# Altium schematic symbol library WR-WTB_2.54mm.SchLib: 34 symbols
Pins are listed as number, name and electrical type; pins without a type are passive.

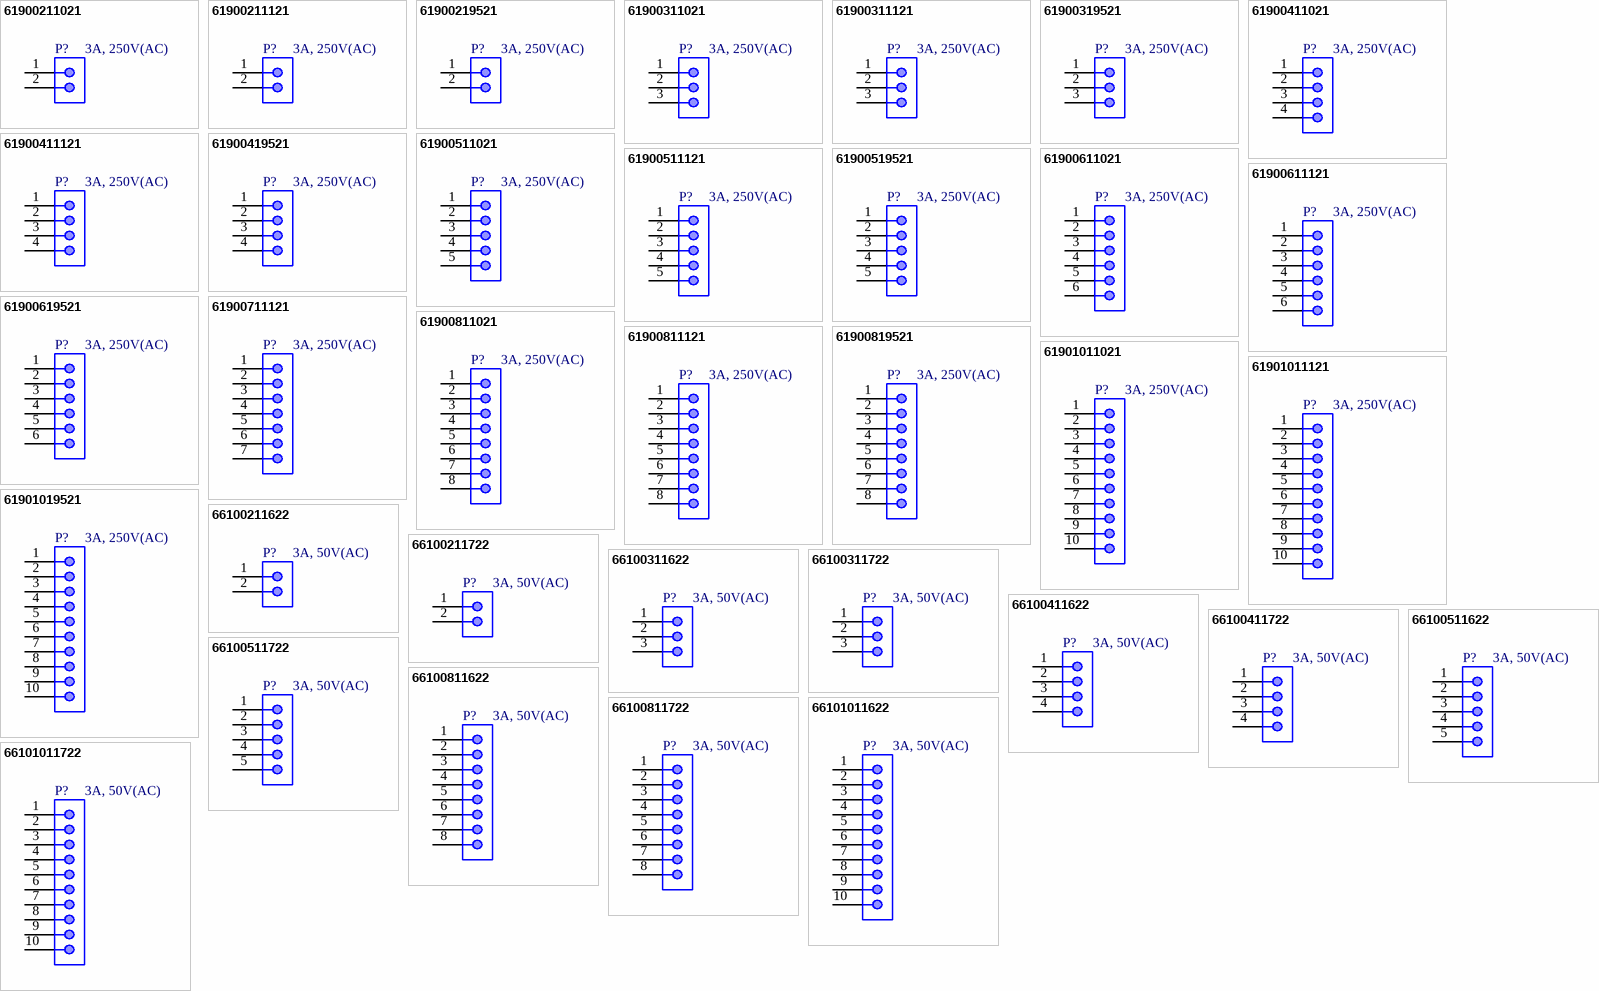
[diagram p0: symbols 61900211021 to 66101011722]

## 61900211021
designator P?, comment 3A, 250V(AC)
WR-WTB THT Male Left Angled Bottom Locking Header, pitch 2.54mm, 2p; Part Number: 61900211021; Manufacturer: Wurth Elektronik; Pin Number: 2; Contact Resistance: 20mOhm; Withstanding Voltage: 1000VAC; Working Voltage: 250VAC; ComponentLink1Description: Datasheet; ComponentLink1URL: https://www.we-online.com/catalog/datasheet/61900211021.pdf; Pitch: 2.54mm; Packaging: Bag; Gender: Male; Type: Right Angled Bottom Locking; Rated Current: 3A; Supplier 1 URL: N/A; Supplier 2 URL: N/A; Supplier 3 URL: N/A; Value: 3A, 250V(AC); LCSC Part #: N/A; Manufacturer Part Number: 61900211021; Mount: THT; Operating Temperature Max: + 125 C; Operating Temperature Min: - 40 C; Package / Case: 2; Supplier 1: Mouser; Supplier 1 Part Number: N/A; Supplier 2: Digi-Key; Supplier 2 Part Number: N/A; Supplier 3: thegioiic; Supplier 3 Part Number: N/A
footprint 61900211021
pins: 1, 2

## 61900211121
designator P?, comment 3A, 250V(AC)
WR-WTB THT Male Vertical Locking Header, pitch 2.54mm, 2p; Part Number: 61900211121; Manufacturer: Wurth Elektronik; Pin Number: 2; Contact Resistance: 20mOhm; Withstanding Voltage: 1000VAC; Working Voltage: 250VAC; ComponentLink1Description: Datasheet; ComponentLink1URL: https://www.we-online.com/catalog/datasheet/61900211121.pdf; Pitch: 2.54mm; Packaging: Bag; Gender: Male; Type: Vertical; Rated Current: 3A; Supplier 1 URL: N/A; Supplier 2 URL: N/A; Supplier 3 URL: N/A; Value: 3A, 250V(AC); LCSC Part #: N/A; Manufacturer Part Number: 61900211121; Mount: THT; Operating Temperature Max: + 125 C; Operating Temperature Min: - 40 C; Package / Case: 2; Supplier 1: Mouser; Supplier 1 Part Number: N/A; Supplier 2: Digi-Key; Supplier 2 Part Number: N/A; Supplier 3: thegioiic; Supplier 3 Part Number: N/A
footprint 61900211121
pins: 1, 2

## 61900219521
designator P?, comment 3A, 250V(AC)
WR-WTB THT Male Right Angled Top Locking Header, pitch 2.54mm, 2p; Part Number: 61900219521; Manufacturer: Wurth Elektronik; Pin Number: 2; Contact Resistance: 20mOhm; Withstanding Voltage: 1000VAC; Working Voltage: 250VAC; ComponentLink1Description: Datasheet; ComponentLink1URL: https://www.we-online.com/catalog/datasheet/61900219521.pdf; Pitch: 2.54mm; Packaging: Bag; Gender: Male; Type: Right Angled Top Locking; Rated Current: 3A; Supplier 1 URL: N/A; Supplier 2 URL: N/A; Supplier 3 URL: N/A; Value: 3A, 250V(AC); LCSC Part #: N/A; Manufacturer Part Number: 61900219521; Mount: THT; Operating Temperature Max: + 125 C; Operating Temperature Min: - 40 C; Package / Case: 2; Supplier 1: Mouser; Supplier 1 Part Number: N/A; Supplier 2: Digi-Key; Supplier 2 Part Number: N/A; Supplier 3: thegioiic; Supplier 3 Part Number: N/A
footprint 61900219521
pins: 1, 2

## 61900311021
designator P?, comment 3A, 250V(AC)
WR-WTB THT Male Left Angled Bottom Locking Header, pitch 2.54mm, 3p; Part Number: 61900311021; Manufacturer: Wurth Elektronik; Pin Number: 3; Contact Resistance: 20mOhm; Withstanding Voltage: 1000VAC; Working Voltage: 250VAC; ComponentLink1Description: Datasheet; ComponentLink1URL: https://www.we-online.com/catalog/datasheet/61900311021.pdf; Pitch: 2.54mm; Packaging: Bag; Gender: Male; Type: Right Angled Bottom Locking; Rated Current: 3A; Supplier 1 URL: N/A; Supplier 2 URL: N/A; Supplier 3 URL: N/A; Value: 3A, 250V(AC); LCSC Part #: N/A; Manufacturer Part Number: 61900311021; Mount: THT; Operating Temperature Max: + 125 C; Operating Temperature Min: - 40 C; Package / Case: 3; Supplier 1: Mouser; Supplier 1 Part Number: N/A; Supplier 2: Digi-Key; Supplier 2 Part Number: N/A; Supplier 3: thegioiic; Supplier 3 Part Number: N/A
footprint 61900311021
pins: 1, 2, 3

## 61900311121
designator P?, comment 3A, 250V(AC)
WR-WTB THT Male Vertical Locking Header, pitch 2.54mm, 3p; Part Number: 61900311121; Manufacturer: Wurth Elektronik; Pin Number: 3; Contact Resistance: 20mOhm; Withstanding Voltage: 1000VAC; Working Voltage: 250VAC; ComponentLink1Description: Datasheet; ComponentLink1URL: https://www.we-online.com/catalog/datasheet/61900311121.pdf; Pitch: 2.54mm; Packaging: Bag; Gender: Male; Type: Vertical; Rated Current: 3A; Supplier 1 URL: N/A; Supplier 2 URL: N/A; Supplier 3 URL: N/A; Value: 3A, 250V(AC); LCSC Part #: N/A; Manufacturer Part Number: 61900311121; Mount: THT; Operating Temperature Max: + 125 C; Operating Temperature Min: - 40 C; Package / Case: 3; Supplier 1: Mouser; Supplier 1 Part Number: N/A; Supplier 2: Digi-Key; Supplier 2 Part Number: N/A; Supplier 3: thegioiic; Supplier 3 Part Number: N/A
footprint 61900311121
pins: 1, 2, 3

## 61900319521
designator P?, comment 3A, 250V(AC)
WR-WTB THT Male Right Angled Top Locking Header, pitch 2.54mm, 3p; Part Number: 61900319521; Manufacturer: Wurth Elektronik; Pin Number: 3; Contact Resistance: 20mOhm; Withstanding Voltage: 1000VAC; Working Voltage: 250VAC; ComponentLink1Description: Datasheet; ComponentLink1URL: https://www.we-online.com/catalog/datasheet/61900319521.pdf; Pitch: 2.54mm; Packaging: Bag; Gender: Male; Type: Right Angled Top Locking; Rated Current: 3A; Supplier 1 URL: N/A; Supplier 2 URL: N/A; Supplier 3 URL: N/A; Value: 3A, 250V(AC); LCSC Part #: N/A; Manufacturer Part Number: 61900319521; Mount: THT; Operating Temperature Max: + 125 C; Operating Temperature Min: - 40 C; Package / Case: 3; Supplier 1: Mouser; Supplier 1 Part Number: N/A; Supplier 2: Digi-Key; Supplier 2 Part Number: N/A; Supplier 3: thegioiic; Supplier 3 Part Number: N/A
footprint 61900319521
pins: 1, 2, 3

## 61900411021
designator P?, comment 3A, 250V(AC)
WR-WTB THT Male Left Angled Bottom Locking Header, pitch 2.54mm, 4p; Part Number: 61900411021; Manufacturer: Wurth Elektronik; Pin Number: 4; Contact Resistance: 20mOhm; Withstanding Voltage: 1000VAC; Working Voltage: 250VAC; ComponentLink1Description: Datasheet; ComponentLink1URL: https://www.we-online.com/catalog/datasheet/61900411021.pdf; Pitch: 2.54mm; Packaging: Bag; Gender: Male; Type: Right Angled Bottom Locking; Rated Current: 3A; Supplier 1 URL: N/A; Supplier 2 URL: N/A; Supplier 3 URL: N/A; Value: 3A, 250V(AC); LCSC Part #: N/A; Manufacturer Part Number: 61900411021; Mount: THT; Operating Temperature Max: + 125 C; Operating Temperature Min: - 40 C; Package / Case: 4; Supplier 1: Mouser; Supplier 1 Part Number: N/A; Supplier 2: Digi-Key; Supplier 2 Part Number: N/A; Supplier 3: thegioiic; Supplier 3 Part Number: N/A
footprint 61900411021
pins: 1, 2, 3, 4

## 61900411121
designator P?, comment 3A, 250V(AC)
WR-WTB THT Male Vertical Locking Header, pitch 2.54mm, 4p; Part Number: 61900411121; Manufacturer: Wurth Elektronik; Pin Number: 4; Contact Resistance: 20mOhm; Withstanding Voltage: 1000VAC; Working Voltage: 250VAC; ComponentLink1Description: Datasheet; ComponentLink1URL: https://www.we-online.com/catalog/datasheet/61900411121.pdf; Pitch: 2.54mm; Packaging: Bag; Gender: Male; Type: Vertical; Rated Current: 3A; Supplier 1 URL: N/A; Supplier 2 URL: N/A; Supplier 3 URL: N/A; Value: 3A, 250V(AC); LCSC Part #: N/A; Manufacturer Part Number: 61900411121; Mount: THT; Operating Temperature Max: + 125 C; Operating Temperature Min: - 40 C; Package / Case: 4; Supplier 1: Mouser; Supplier 1 Part Number: N/A; Supplier 2: Digi-Key; Supplier 2 Part Number: N/A; Supplier 3: thegioiic; Supplier 3 Part Number: N/A
footprint 61900411121
pins: 1, 2, 3, 4

## 61900419521
designator P?, comment 3A, 250V(AC)
WR-WTB THT Male Right Angled Top Locking Header, pitch 2.54mm, 4p; Part Number: 61900419521; Manufacturer: Wurth Elektronik; Pin Number: 4; Contact Resistance: 20mOhm; Withstanding Voltage: 1000VAC; Working Voltage: 250VAC; ComponentLink1Description: Datasheet; ComponentLink1URL: https://www.we-online.com/catalog/datasheet/61900419521.pdf; Pitch: 2.54mm; Packaging: Bag; Gender: Male; Type: Right Angled Top Locking; Rated Current: 3A; Supplier 1 URL: N/A; Supplier 2 URL: N/A; Supplier 3 URL: N/A; Value: 3A, 250V(AC); LCSC Part #: N/A; Manufacturer Part Number: 61900419521; Mount: THT; Operating Temperature Max: + 125 C; Operating Temperature Min: - 40 C; Package / Case: 4; Supplier 1: Mouser; Supplier 1 Part Number: N/A; Supplier 2: Digi-Key; Supplier 2 Part Number: N/A; Supplier 3: thegioiic; Supplier 3 Part Number: N/A
footprint 61900419521
pins: 1, 2, 3, 4

## 61900511021
designator P?, comment 3A, 250V(AC)
WR-WTB THT Male Left Angled Bottom Locking Header, pitch 2.54mm, 5p; Part Number: 61900511021; Manufacturer: Wurth Elektronik; Pin Number: 5; Contact Resistance: 20mOhm; Withstanding Voltage: 1000VAC; Working Voltage: 250VAC; ComponentLink1Description: Datasheet; ComponentLink1URL: https://www.we-online.com/catalog/datasheet/61900511021.pdf; Pitch: 2.54mm; Packaging: Bag; Gender: Male; Type: Right Angled Bottom Locking; Rated Current: 3A; Supplier 1 URL: N/A; Supplier 2 URL: N/A; Supplier 3 URL: N/A; Value: 3A, 250V(AC); LCSC Part #: N/A; Manufacturer Part Number: 61900511021; Mount: THT; Operating Temperature Max: + 125 C; Operating Temperature Min: - 40 C; Package / Case: 5; Supplier 1: Mouser; Supplier 1 Part Number: N/A; Supplier 2: Digi-Key; Supplier 2 Part Number: N/A; Supplier 3: thegioiic; Supplier 3 Part Number: N/A
footprint 61900511021
pins: 1, 2, 3, 4, 5

## 61900511121
designator P?, comment 3A, 250V(AC)
WR-WTB THT Male Vertical Locking Header, pitch 2.54mm, 5p; Part Number: 61900511121; Manufacturer: Wurth Elektronik; Pin Number: 5; Contact Resistance: 20mOhm; Withstanding Voltage: 1000VAC; Working Voltage: 250VAC; ComponentLink1Description: Datasheet; ComponentLink1URL: https://www.we-online.com/catalog/datasheet/61900511121.pdf; Pitch: 2.54mm; Packaging: Bag; Gender: Male; Type: Vertical; Rated Current: 3A; Supplier 1 URL: N/A; Supplier 2 URL: N/A; Supplier 3 URL: N/A; Value: 3A, 250V(AC); LCSC Part #: N/A; Manufacturer Part Number: 61900511121; Mount: THT; Operating Temperature Max: + 125 C; Operating Temperature Min: - 40 C; Package / Case: 5; Supplier 1: Mouser; Supplier 1 Part Number: N/A; Supplier 2: Digi-Key; Supplier 2 Part Number: N/A; Supplier 3: thegioiic; Supplier 3 Part Number: N/A
footprint 61900511121
pins: 1, 2, 3, 4, 5

## 61900519521
designator P?, comment 3A, 250V(AC)
WR-WTB THT Male Right Angled Top Locking Header, pitch 2.54mm, 5p; Part Number: 61900519521; Manufacturer: Wurth Elektronik; Pin Number: 5; Contact Resistance: 20mOhm; Withstanding Voltage: 1000VAC; Working Voltage: 250VAC; ComponentLink1Description: Datasheet; ComponentLink1URL: https://www.we-online.com/catalog/datasheet/61900519521.pdf; Pitch: 2.54mm; Packaging: Bag; Gender: Male; Type: Right Angled Top Locking; Rated Current: 3A; Supplier 1 URL: N/A; Supplier 2 URL: N/A; Supplier 3 URL: N/A; Value: 3A, 250V(AC); LCSC Part #: N/A; Manufacturer Part Number: 61900519521; Mount: THT; Operating Temperature Max: + 125 C; Operating Temperature Min: - 40 C; Package / Case: 5; Supplier 1: Mouser; Supplier 1 Part Number: N/A; Supplier 2: Digi-Key; Supplier 2 Part Number: N/A; Supplier 3: thegioiic; Supplier 3 Part Number: N/A
footprint 61900519521
pins: 1, 2, 3, 4, 5

## 61900611021
designator P?, comment 3A, 250V(AC)
WR-WTB THT Male Left Angled Bottom Locking Header, pitch 2.54mm, 6p; Part Number: 61900611021; Manufacturer: Wurth Elektronik; Pin Number: 6; Contact Resistance: 20mOhm; Withstanding Voltage: 1000VAC; Working Voltage: 250VAC; ComponentLink1Description: Datasheet; ComponentLink1URL: https://www.we-online.com/catalog/datasheet/61900611021.pdf; Pitch: 2.54mm; Packaging: Bag; Gender: Male; Type: Right Angled Bottom Locking; Rated Current: 3A; Supplier 1 URL: N/A; Supplier 2 URL: N/A; Supplier 3 URL: N/A; Value: 3A, 250V(AC); LCSC Part #: N/A; Manufacturer Part Number: 61900611021; Mount: THT; Operating Temperature Max: + 125 C; Operating Temperature Min: - 40 C; Package / Case: 6; Supplier 1: Mouser; Supplier 1 Part Number: N/A; Supplier 2: Digi-Key; Supplier 2 Part Number: N/A; Supplier 3: thegioiic; Supplier 3 Part Number: N/A
footprint 61900611021
pins: 1, 2, 3, 4, 5, 6

## 61900611121
designator P?, comment 3A, 250V(AC)
WR-WTB THT Male Vertical Locking Header, pitch 2.54mm, 6p; Part Number: 61900611121; Manufacturer: Wurth Elektronik; Pin Number: 6; Contact Resistance: 20mOhm; Withstanding Voltage: 1000VAC; Working Voltage: 250VAC; ComponentLink1Description: Datasheet; ComponentLink1URL: https://www.we-online.com/catalog/datasheet/61900611121.pdf; Pitch: 2.54mm; Packaging: Bag; Gender: Male; Type: Vertical; Rated Current: 3A; Supplier 1 URL: N/A; Supplier 2 URL: N/A; Supplier 3 URL: N/A; Value: 3A, 250V(AC); LCSC Part #: N/A; Manufacturer Part Number: 61900611121; Mount: THT; Operating Temperature Max: + 125 C; Operating Temperature Min: - 40 C; Package / Case: 6; Supplier 1: Mouser; Supplier 1 Part Number: N/A; Supplier 2: Digi-Key; Supplier 2 Part Number: N/A; Supplier 3: thegioiic; Supplier 3 Part Number: N/A
footprint 61900611121
pins: 1, 2, 3, 4, 5, 6

## 61900619521
designator P?, comment 3A, 250V(AC)
WR-WTB THT Male Right Angled Top Locking Header, pitch 2.54mm, 6p; Part Number: 61900619521; Manufacturer: Wurth Elektronik; Pin Number: 6; Contact Resistance: 20mOhm; Withstanding Voltage: 1000VAC; Working Voltage: 250VAC; ComponentLink1Description: Datasheet; ComponentLink1URL: https://www.we-online.com/catalog/datasheet/61900619521.pdf; Pitch: 2.54mm; Packaging: Bag; Gender: Male; Type: Right Angled Top Locking; Rated Current: 3A; Supplier 1 URL: N/A; Supplier 2 URL: N/A; Supplier 3 URL: N/A; Value: 3A, 250V(AC); LCSC Part #: N/A; Manufacturer Part Number: 61900619521; Mount: THT; Operating Temperature Max: + 125 C; Operating Temperature Min: - 40 C; Package / Case: 6; Supplier 1: Mouser; Supplier 1 Part Number: N/A; Supplier 2: Digi-Key; Supplier 2 Part Number: N/A; Supplier 3: thegioiic; Supplier 3 Part Number: N/A
footprint 61900619521
pins: 1, 2, 3, 4, 5, 6

## 61900711121
designator P?, comment 3A, 250V(AC)
WR-WTB THT Male Vertical Locking Header, pitch 2.54mm, 7p; Part Number: 61900711121; Manufacturer: Wurth Elektronik; Pin Number: 7; Contact Resistance: 20mOhm; Withstanding Voltage: 1000VAC; Working Voltage: 250VAC; ComponentLink1Description: Datasheet; ComponentLink1URL: https://www.we-online.com/catalog/datasheet/61900711121.pdf; Pitch: 2.54mm; Packaging: Bag; Gender: Male; Type: Vertical; Rated Current: 3A; Supplier 1 URL: N/A; Supplier 2 URL: N/A; Supplier 3 URL: N/A; Value: 3A, 250V(AC); LCSC Part #: N/A; Manufacturer Part Number: 61900711121; Mount: THT; Operating Temperature Max: + 125 C; Operating Temperature Min: - 40 C; Package / Case: 7; Supplier 1: Mouser; Supplier 1 Part Number: N/A; Supplier 2: Digi-Key; Supplier 2 Part Number: N/A; Supplier 3: thegioiic; Supplier 3 Part Number: N/A
footprint 61900711121
pins: 1, 2, 3, 4, 5, 6, 7

## 61900811021
designator P?, comment 3A, 250V(AC)
WR-WTB THT Male Left Angled Bottom Locking Header, pitch 2.54mm, 8p; Part Number: 61900811021; Manufacturer: Wurth Elektronik; Pin Number: 8; Contact Resistance: 20mOhm; Withstanding Voltage: 1000VAC; Working Voltage: 250VAC; ComponentLink1Description: Datasheet; ComponentLink1URL: https://www.we-online.com/catalog/datasheet/61900811021.pdf; Pitch: 2.54mm; Packaging: Bag; Gender: Male; Type: Right Angled Bottom Locking; Rated Current: 3A; Supplier 1 URL: N/A; Supplier 2 URL: N/A; Supplier 3 URL: N/A; Value: 3A, 250V(AC); LCSC Part #: N/A; Manufacturer Part Number: 61900811021; Mount: THT; Operating Temperature Max: + 125 C; Operating Temperature Min: - 40 C; Package / Case: 8; Supplier 1: Mouser; Supplier 1 Part Number: N/A; Supplier 2: Digi-Key; Supplier 2 Part Number: N/A; Supplier 3: thegioiic; Supplier 3 Part Number: N/A
footprint 61900811021
pins: 1, 2, 3, 4, 5, 6, 7, 8

## 61900811121
designator P?, comment 3A, 250V(AC)
WR-WTB THT Male Vertical Locking Header, pitch 2.54mm, 8p; Part Number: 61900811121; Manufacturer: Wurth Elektronik; Pin Number: 8; Contact Resistance: 20mOhm; Withstanding Voltage: 1000VAC; Working Voltage: 250VAC; ComponentLink1Description: Datasheet; ComponentLink1URL: https://www.we-online.com/catalog/datasheet/61900811121.pdf; Pitch: 2.54mm; Packaging: Bag; Gender: Male; Type: Vertical; Rated Current: 3A; Supplier 1 URL: N/A; Supplier 2 URL: N/A; Supplier 3 URL: N/A; Value: 3A, 250V(AC); LCSC Part #: N/A; Manufacturer Part Number: 61900811121; Mount: THT; Operating Temperature Max: + 125 C; Operating Temperature Min: - 40 C; Package / Case: 8; Supplier 1: Mouser; Supplier 1 Part Number: N/A; Supplier 2: Digi-Key; Supplier 2 Part Number: N/A; Supplier 3: thegioiic; Supplier 3 Part Number: N/A
footprint 61900811121
pins: 1, 2, 3, 4, 5, 6, 7, 8

## 61900819521
designator P?, comment 3A, 250V(AC)
WR-WTB THT Male Right Angled Top Locking Header, pitch 2.54mm, 8p; Part Number: 61900819521; Manufacturer: Wurth Elektronik; Pin Number: 8; Contact Resistance: 20mOhm; Withstanding Voltage: 1000VAC; Working Voltage: 250VAC; ComponentLink1Description: Datasheet; ComponentLink1URL: https://www.we-online.com/catalog/datasheet/61900819521.pdf; Pitch: 2.54mm; Packaging: Bag; Gender: Male; Type: Right Angled Top Locking; Rated Current: 3A; Supplier 1 URL: N/A; Supplier 2 URL: N/A; Supplier 3 URL: N/A; Value: 3A, 250V(AC); LCSC Part #: N/A; Manufacturer Part Number: 61900819521; Mount: THT; Operating Temperature Max: + 125 C; Operating Temperature Min: - 40 C; Package / Case: 8; Supplier 1: Mouser; Supplier 1 Part Number: N/A; Supplier 2: Digi-Key; Supplier 2 Part Number: N/A; Supplier 3: thegioiic; Supplier 3 Part Number: N/A
footprint 61900819521
pins: 1, 2, 3, 4, 5, 6, 7, 8

## 61901011021
designator P?, comment 3A, 250V(AC)
WR-WTB THT Male Left Angled Bottom Locking Header, pitch 2.54mm, 10p; Part Number: 61901011021; Manufacturer: Wurth Elektronik; Pin Number: 10; Contact Resistance: 20mOhm; Withstanding Voltage: 1000VAC; Working Voltage: 250VAC; ComponentLink1Description: Datasheet; ComponentLink1URL: https://www.we-online.com/catalog/datasheet/61901011021.pdf; Pitch: 2.54mm; Packaging: Bag; Gender: Male; Type: Right Angled Bottom Locking; Rated Current: 3A; Supplier 1 URL: N/A; Supplier 2 URL: N/A; Supplier 3 URL: N/A; Value: 3A, 250V(AC); LCSC Part #: N/A; Manufacturer Part Number: 61901011021; Mount: THT; Operating Temperature Max: + 125 C; Operating Temperature Min: - 40 C; Package / Case: 10; Supplier 1: Mouser; Supplier 1 Part Number: N/A; Supplier 2: Digi-Key; Supplier 2 Part Number: N/A; Supplier 3: thegioiic; Supplier 3 Part Number: N/A
footprint 61901011021
pins: 1, 2, 3, 4, 5, 6, 7, 8, 9, 10

## 61901011121
designator P?, comment 3A, 250V(AC)
WR-WTB THT Male Vertical Locking Header, pitch 2.54mm, 10p; Part Number: 61901011121; Manufacturer: Wurth Elektronik; Pin Number: 10; Contact Resistance: 20mOhm; Withstanding Voltage: 1000VAC; Working Voltage: 250VAC; ComponentLink1Description: Datasheet; ComponentLink1URL: https://www.we-online.com/catalog/datasheet/61901011121.pdf; Pitch: 2.54mm; Packaging: Bag; Gender: Male; Type: Vertical; Rated Current: 3A; Supplier 1 URL: N/A; Supplier 2 URL: N/A; Supplier 3 URL: N/A; Value: 3A, 250V(AC); LCSC Part #: N/A; Manufacturer Part Number: 61901011121; Mount: THT; Operating Temperature Max: + 125 C; Operating Temperature Min: - 40 C; Package / Case: 10; Supplier 1: Mouser; Supplier 1 Part Number: N/A; Supplier 2: Digi-Key; Supplier 2 Part Number: N/A; Supplier 3: thegioiic; Supplier 3 Part Number: N/A
footprint 61901011121
pins: 1, 2, 3, 4, 5, 6, 7, 8, 9, 10

## 61901019521
designator P?, comment 3A, 250V(AC)
WR-WTB THT Male Right Angled Top Locking Header, pitch 2.54mm, 10p; Part Number: 61901019521; Manufacturer: Wurth Elektronik; Pin Number: 10; Contact Resistance: 20mOhm; Withstanding Voltage: 1000VAC; Working Voltage: 250VAC; ComponentLink1Description: Datasheet; ComponentLink1URL: https://www.we-online.com/catalog/datasheet/61901019521.pdf; Pitch: 2.54mm; Packaging: Bag; Gender: Male; Type: Right Angled Top Locking; Rated Current: 3A; Supplier 1 URL: N/A; Supplier 2 URL: N/A; Supplier 3 URL: N/A; Value: 3A, 250V(AC); LCSC Part #: N/A; Manufacturer Part Number: 61901019521; Mount: THT; Operating Temperature Max: + 125 C; Operating Temperature Min: - 40 C; Package / Case: 10; Supplier 1: Mouser; Supplier 1 Part Number: N/A; Supplier 2: Digi-Key; Supplier 2 Part Number: N/A; Supplier 3: thegioiic; Supplier 3 Part Number: N/A
footprint 61901019521
pins: 1, 2, 3, 4, 5, 6, 7, 8, 9, 10

## 66100211622
designator P?, comment 3A, 50V(AC)
WR-WTB Male Vertical Shrouded Header, pitch 2.54mm, 2p; Part Number: 66100211622; Manufacturer: Wurth Elektronik; Pin Number: 2; Contact Resistance: 20mOhm; Withstanding Voltage: 500VAC; Working Voltage: 50VAC; ComponentLink1Description: Datasheet; ComponentLink1URL: https://www.we-online.com/catalog/datasheet/66100211622.pdf; Pitch: 2.54mm; Packaging: Box; Gender: Male; Type: Vertical; Rated Current: 3A; Supplier 1 URL: N/A; Supplier 2 URL: N/A; Supplier 3 URL: N/A; Value: 3A, 50V(AC); LCSC Part #: N/A; Manufacturer Part Number: 66100211622; Mount: THT; Operating Temperature Max: + 125 C; Operating Temperature Min: - 40 C; Package / Case: 2; Supplier 1: Mouser; Supplier 1 Part Number: N/A; Supplier 2: Digi-Key; Supplier 2 Part Number: N/A; Supplier 3: thegioiic; Supplier 3 Part Number: N/A
footprint 66100211622
pins: 1, 2

## 66100211722
designator P?, comment 3A, 50V(AC)
WR-WTB THT Male Right Angled Shrouded Header, pitch 2.54mm, 2p; Part Number: 66100211722; Manufacturer: Wurth Elektronik; Pin Number: 2; Contact Resistance: 20mOhm; Withstanding Voltage: 500VAC; Working Voltage: 50VAC; ComponentLink1Description: Datasheet; ComponentLink1URL: https://www.we-online.com/catalog/datasheet/66100211722.pdf; Pitch: 2.54mm; Packaging: Box; Gender: Male; Type: Right Angled; Rated Current: 3A; Supplier 1 URL: N/A; Supplier 2 URL: N/A; Supplier 3 URL: N/A; Value: 3A, 50V(AC); LCSC Part #: N/A; Manufacturer Part Number: 66100211722; Mount: THT; Operating Temperature Max: + 125 C; Operating Temperature Min: - 40 C; Package / Case: 2; Supplier 1: Mouser; Supplier 1 Part Number: N/A; Supplier 2: Digi-Key; Supplier 2 Part Number: N/A; Supplier 3: thegioiic; Supplier 3 Part Number: N/A
footprint 66100211722
pins: 1, 2

## 66100311622
designator P?, comment 3A, 50V(AC)
WR-WTB Male Vertical Shrouded Header, pitch 2.54mm, 3p; Part Number: 66100311622; Manufacturer: Wurth Elektronik; Pin Number: 3; Contact Resistance: 20mOhm; Withstanding Voltage: 500VAC; Working Voltage: 50VAC; ComponentLink1Description: Datasheet; ComponentLink1URL: https://www.we-online.com/catalog/datasheet/66100311622.pdf; Pitch: 2.54mm; Packaging: Box; Gender: Male; Type: Vertical; Rated Current: 3A; Supplier 1 URL: N/A; Supplier 2 URL: N/A; Supplier 3 URL: N/A; Value: 3A, 50V(AC); LCSC Part #: N/A; Manufacturer Part Number: 66100311622; Mount: THT; Operating Temperature Max: + 125 C; Operating Temperature Min: - 40 C; Package / Case: 3; Supplier 1: Mouser; Supplier 1 Part Number: N/A; Supplier 2: Digi-Key; Supplier 2 Part Number: N/A; Supplier 3: thegioiic; Supplier 3 Part Number: N/A
footprint 66100311622
pins: 1, 2, 3

## 66100311722
designator P?, comment 3A, 50V(AC)
WR-WTB THT Male Right Angled Shrouded Header, pitch 2.54mm, 3p; Part Number: 66100311722; Manufacturer: Wurth Elektronik; Pin Number: 3; Contact Resistance: 20mOhm; Withstanding Voltage: 500VAC; Working Voltage: 50VAC; ComponentLink1Description: Datasheet; ComponentLink1URL: https://www.we-online.com/catalog/datasheet/66100311722.pdf; Pitch: 2.54mm; Packaging: Box; Gender: Male; Type: Right Angled; Rated Current: 3A; Supplier 1 URL: N/A; Supplier 2 URL: N/A; Supplier 3 URL: N/A; Value: 3A, 50V(AC); LCSC Part #: N/A; Manufacturer Part Number: 66100311722; Mount: THT; Operating Temperature Max: + 125 C; Operating Temperature Min: - 40 C; Package / Case: 3; Supplier 1: Mouser; Supplier 1 Part Number: N/A; Supplier 2: Digi-Key; Supplier 2 Part Number: N/A; Supplier 3: thegioiic; Supplier 3 Part Number: N/A
footprint 66100311722
pins: 1, 2, 3

## 66100411622
designator P?, comment 3A, 50V(AC)
WR-WTB Male Vertical Shrouded Header, pitch 2.54mm, 4p; Part Number: 66100411622; Manufacturer: Wurth Elektronik; Pin Number: 4; Contact Resistance: 20mOhm; Withstanding Voltage: 500VAC; Working Voltage: 50VAC; ComponentLink1Description: Datasheet; ComponentLink1URL: https://www.we-online.com/catalog/datasheet/66100411622.pdf; Pitch: 2.54mm; Packaging: Box; Gender: Male; Type: Vertical; Rated Current: 3A; Supplier 1 URL: N/A; Supplier 2 URL: N/A; Supplier 3 URL: N/A; Value: 3A, 50V(AC); LCSC Part #: N/A; Manufacturer Part Number: 66100411622; Mount: THT; Operating Temperature Max: + 125 C; Operating Temperature Min: - 40 C; Package / Case: 4; Supplier 1: Mouser; Supplier 1 Part Number: N/A; Supplier 2: Digi-Key; Supplier 2 Part Number: N/A; Supplier 3: thegioiic; Supplier 3 Part Number: N/A
footprint 66100411622
pins: 1, 2, 3, 4

## 66100411722
designator P?, comment 3A, 50V(AC)
WR-WTB THT Male Right Angled Shrouded Header, pitch 2.54mm, 4p; Part Number: 66100411722; Manufacturer: Wurth Elektronik; Pin Number: 4; Contact Resistance: 20mOhm; Withstanding Voltage: 500VAC; Working Voltage: 50VAC; ComponentLink1Description: Datasheet; ComponentLink1URL: https://www.we-online.com/catalog/datasheet/66100411722.pdf; Pitch: 2.54mm; Packaging: Box; Gender: Male; Type: Right Angled; Rated Current: 3A; Supplier 1 URL: N/A; Supplier 2 URL: N/A; Supplier 3 URL: N/A; Value: 3A, 50V(AC); LCSC Part #: N/A; Manufacturer Part Number: 66100411722; Mount: THT; Operating Temperature Max: + 125 C; Operating Temperature Min: - 40 C; Package / Case: 4; Supplier 1: Mouser; Supplier 1 Part Number: N/A; Supplier 2: Digi-Key; Supplier 2 Part Number: N/A; Supplier 3: thegioiic; Supplier 3 Part Number: N/A
footprint 66100411722
pins: 1, 2, 3, 4

## 66100511622
designator P?, comment 3A, 50V(AC)
WR-WTB Male Vertical Shrouded Header, pitch 2.54mm, 5p; Part Number: 66100511622; Manufacturer: Wurth Elektronik; Pin Number: 5; Contact Resistance: 20mOhm; Withstanding Voltage: 500VAC; Working Voltage: 50VAC; ComponentLink1Description: Datasheet; ComponentLink1URL: https://www.we-online.com/catalog/datasheet/66100511622.pdf; Pitch: 2.54mm; Packaging: Box; Gender: Male; Type: Vertical; Rated Current: 3A; Supplier 1 URL: N/A; Supplier 2 URL: N/A; Supplier 3 URL: N/A; Value: 3A, 50V(AC); LCSC Part #: N/A; Manufacturer Part Number: 66100511622; Mount: THT; Operating Temperature Max: + 125 C; Operating Temperature Min: - 40 C; Package / Case: 5; Supplier 1: Mouser; Supplier 1 Part Number: N/A; Supplier 2: Digi-Key; Supplier 2 Part Number: N/A; Supplier 3: thegioiic; Supplier 3 Part Number: N/A
footprint 66100511622
pins: 1, 2, 3, 4, 5

## 66100511722
designator P?, comment 3A, 50V(AC)
WR-WTB THT Male Right Angled Shrouded Header, pitch 2.54mm, 5p; Part Number: 66100511722; Manufacturer: Wurth Elektronik; Pin Number: 5; Contact Resistance: 20mOhm; Withstanding Voltage: 500VAC; Working Voltage: 50VAC; ComponentLink1Description: Datasheet; ComponentLink1URL: https://www.we-online.com/catalog/datasheet/66100511722.pdf; Pitch: 2.54mm; Packaging: Box; Gender: Male; Type: Right Angled; Rated Current: 3A; Supplier 1 URL: N/A; Supplier 2 URL: N/A; Supplier 3 URL: N/A; Value: 3A, 50V(AC); LCSC Part #: N/A; Manufacturer Part Number: 66100511722; Mount: THT; Operating Temperature Max: + 125 C; Operating Temperature Min: - 40 C; Package / Case: 5; Supplier 1: Mouser; Supplier 1 Part Number: N/A; Supplier 2: Digi-Key; Supplier 2 Part Number: N/A; Supplier 3: thegioiic; Supplier 3 Part Number: N/A
footprint 66100511722
pins: 1, 2, 3, 4, 5

## 66100811622
designator P?, comment 3A, 50V(AC)
WR-WTB Male Vertical Shrouded Header, pitch 2.54mm, 8p; Part Number: 66100811622; Manufacturer: Wurth Elektronik; Pin Number: 8; Contact Resistance: 20mOhm; Withstanding Voltage: 500VAC; Working Voltage: 50VAC; ComponentLink1Description: Datasheet; ComponentLink1URL: https://www.we-online.com/catalog/datasheet/66100811622.pdf; Pitch: 2.54mm; Packaging: Box; Gender: Male; Type: Vertical; Rated Current: 3A; Supplier 1 URL: N/A; Supplier 2 URL: N/A; Supplier 3 URL: N/A; Value: 3A, 50V(AC); LCSC Part #: N/A; Manufacturer Part Number: 66100811622; Mount: THT; Operating Temperature Max: + 125 C; Operating Temperature Min: - 40 C; Package / Case: 8; Supplier 1: Mouser; Supplier 1 Part Number: N/A; Supplier 2: Digi-Key; Supplier 2 Part Number: N/A; Supplier 3: thegioiic; Supplier 3 Part Number: N/A
footprint 66100811622
pins: 1, 2, 3, 4, 5, 6, 7, 8

## 66100811722
designator P?, comment 3A, 50V(AC)
WR-WTB THT Male Right Angled Shrouded Header, pitch 2.54mm, 8p; Part Number: 66100811722; Manufacturer: Wurth Elektronik; Pin Number: 8; Contact Resistance: 20mOhm; Withstanding Voltage: 500VAC; Working Voltage: 50VAC; ComponentLink1Description: Datasheet; ComponentLink1URL: https://www.we-online.com/catalog/datasheet/66100811722.pdf; Pitch: 2.54mm; Packaging: Box; Gender: Male; Type: Right Angled; Rated Current: 3A; Supplier 1 URL: N/A; Supplier 2 URL: N/A; Supplier 3 URL: N/A; Value: 3A, 50V(AC); LCSC Part #: N/A; Manufacturer Part Number: 66100811722; Mount: THT; Operating Temperature Max: + 125 C; Operating Temperature Min: - 40 C; Package / Case: 8; Supplier 1: Mouser; Supplier 1 Part Number: N/A; Supplier 2: Digi-Key; Supplier 2 Part Number: N/A; Supplier 3: thegioiic; Supplier 3 Part Number: N/A
footprint 66100811722
pins: 1, 2, 3, 4, 5, 6, 7, 8

## 66101011622
designator P?, comment 3A, 50V(AC)
WR-WTB Male Vertical Shrouded Header, pitch 2.54mm, 10p; Part Number: 66101011622; Manufacturer: Wurth Elektronik; Pin Number: 10; Contact Resistance: 20mOhm; Withstanding Voltage: 500VAC; Working Voltage: 50VAC; ComponentLink1Description: Datasheet; ComponentLink1URL: https://www.we-online.com/catalog/datasheet/66101011622.pdf; Pitch: 2.54mm; Packaging: Box; Gender: Male; Type: Vertical; Rated Current: 3A; Supplier 1 URL: N/A; Supplier 2 URL: N/A; Supplier 3 URL: N/A; Value: 3A, 50V(AC); LCSC Part #: N/A; Manufacturer Part Number: 66101011622; Mount: THT; Operating Temperature Max: + 125 C; Operating Temperature Min: - 40 C; Package / Case: 10; Supplier 1: Mouser; Supplier 1 Part Number: N/A; Supplier 2: Digi-Key; Supplier 2 Part Number: N/A; Supplier 3: thegioiic; Supplier 3 Part Number: N/A
footprint 66101011622
pins: 1, 2, 3, 4, 5, 6, 7, 8, 9, 10

## 66101011722
designator P?, comment 3A, 50V(AC)
WR-WTB THT Male Right Angled Shrouded Header, pitch 2.54mm, 10p; Part Number: 66101011722; Manufacturer: Wurth Elektronik; Pin Number: 10; Contact Resistance: 20mOhm; Withstanding Voltage: 500VAC; Working Voltage: 50VAC; ComponentLink1Description: Datasheet; ComponentLink1URL: https://www.we-online.com/catalog/datasheet/66101011722.pdf; Pitch: 2.54mm; Packaging: Box; Gender: Male; Type: Right Angled; Rated Current: 3A; Supplier 1 URL: N/A; Supplier 2 URL: N/A; Supplier 3 URL: N/A; Value: 3A, 50V(AC); LCSC Part #: N/A; Manufacturer Part Number: 66101011722; Mount: THT; Operating Temperature Max: + 125 C; Operating Temperature Min: - 40 C; Package / Case: 10; Supplier 1: Mouser; Supplier 1 Part Number: N/A; Supplier 2: Digi-Key; Supplier 2 Part Number: N/A; Supplier 3: thegioiic; Supplier 3 Part Number: N/A
footprint 66101011722
pins: 1, 2, 3, 4, 5, 6, 7, 8, 9, 10